# Altium integrated library Transistor.IntLib: 3457 symbols (part 52 of 78)
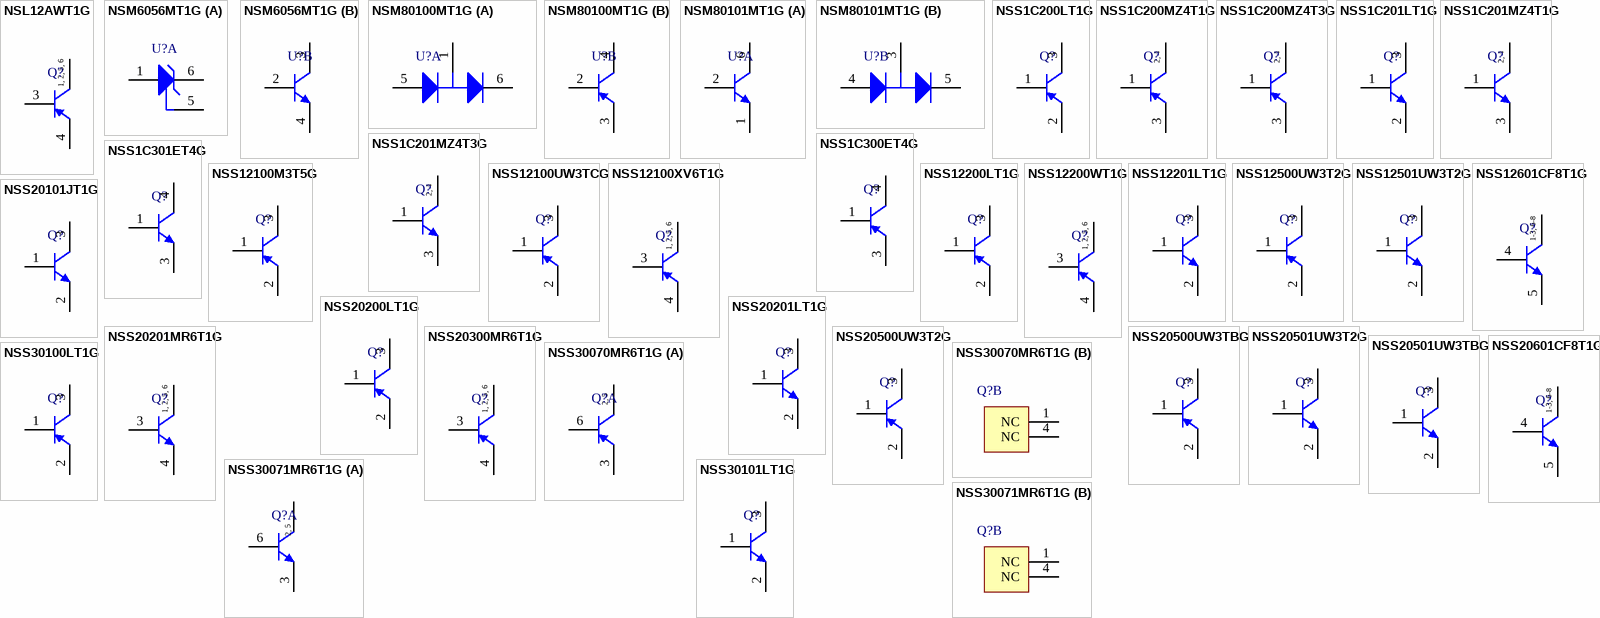
[diagram p145: symbols NSL12AWT1G to NSS30101LT1G]

## NSS30100LT1G
designator Q?
30 V, 2 A, Low VCE(sat), PNP Transistor, 3-Pin SOT-23, Pb-Free, Tape and Reel; Manufacturer: On Semiconductor; PartNumber: NSS30100LT1G; fT Min (MHz): 100; IC Continuous (A): -1; DatasheetVersion: Rev. 2; PackageVersion: Rev. AP, 11/2009; PackageReference: SOT-23-3-318-08; PackageDescription: 3-Pin Small Outline Transistor, Body 2.92 x 1.3 mm, Pitch 0.95 mm; Supplier 1: Digi-Key; Supplier Part Number 1: NSS30100LT1GOSTR-ND; Supplier 2: Digi-Key; Supplier Part Number 2: NSS30100LT1GOSCT-ND; Supplier 3: Digi-Key; Supplier Part Number 3: NSS30100LT1GOSDKR-ND; Supplier 4: Newark; Supplier Part Number 4: 61K1268; Supplier 5: Mouser; Supplier Part Number 5: 863-NSS30100LT1G; Packing: Tape and Reel; Polarity: PNP; RoHS: TRUE; Mounting Technology: Surface Mount; ComponentLink1Description: Manufacturer URL; ComponentLink1URL: http://www.onsemi.com/; ComponentLink2Description: Datasheet; ComponentLink2URL: http://www.onsemi.com/pub_link/Collateral/NSS30100LT1G-D.PDF; ComponentLink3Description: Package Specification; ComponentLink3URL: http://www.onsemi.cn/pub_link/Collateral/318-08.PDF
footprint ONSC-SOT-23-3-318-08_V (SOT23, 3-Leads, Body 2.92x1.3mm, Pitch 0.95mm)
pins: 1 B, 2 E, 3 C

## NSS30101LT1G
designator Q?
30 V, 2 A, Low VCE(sat), NPN Transistor, 3-Pin SOT-23, Pb-Free, Tape and Reel; Manufacturer: On Semiconductor; PartNumber: NSS30101LT1G; fT Min (MHz): 100; DatasheetVersion: Rev. 1; PackageVersion: Rev. AP, 11/2009; PackageReference: SOT-23-3-318-08; PackageDescription: 3-Pin Small Outline Transistor, Body 2.92 x 1.3 mm, Pitch 0.95 mm; Supplier 1: Digi-Key; Supplier Part Number 1: NSS30101LT1GOSTR-ND; Supplier 2: Digi-Key; Supplier Part Number 2: NSS30101LT1GOSCT-ND; Supplier 3: Digi-Key; Supplier Part Number 3: NSS30101LT1GOSDKR-ND; Supplier 4: Farnell; Supplier Part Number 4: 2317562; Supplier 5: Newark; Supplier Part Number 5: 09R9617; Supplier 6: Newark; Supplier Part Number 6: 61K1269; Supplier 7: Mouser; Supplier Part Number 7: 863-NSS30101LT1G; Packing: Tape and Reel; Polarity: NPN; RoHS: TRUE; Mounting Technology: Surface Mount; ComponentLink1Description: Manufacturer URL; ComponentLink1URL: http://www.onsemi.com/; ComponentLink2Description: Datasheet; ComponentLink2URL: http://www.onsemi.com/pub_link/Collateral/NSS30101LT1G-D.PDF; ComponentLink3Description: Package Specification; ComponentLink3URL: http://www.onsemi.cn/pub_link/Collateral/318-08.PDF
footprint ONSC-SOT-23-3-318-08_V (SOT23, 3-Leads, Body 2.92x1.3mm, Pitch 0.95mm)
pins: 1 B, 2 E, 3 C

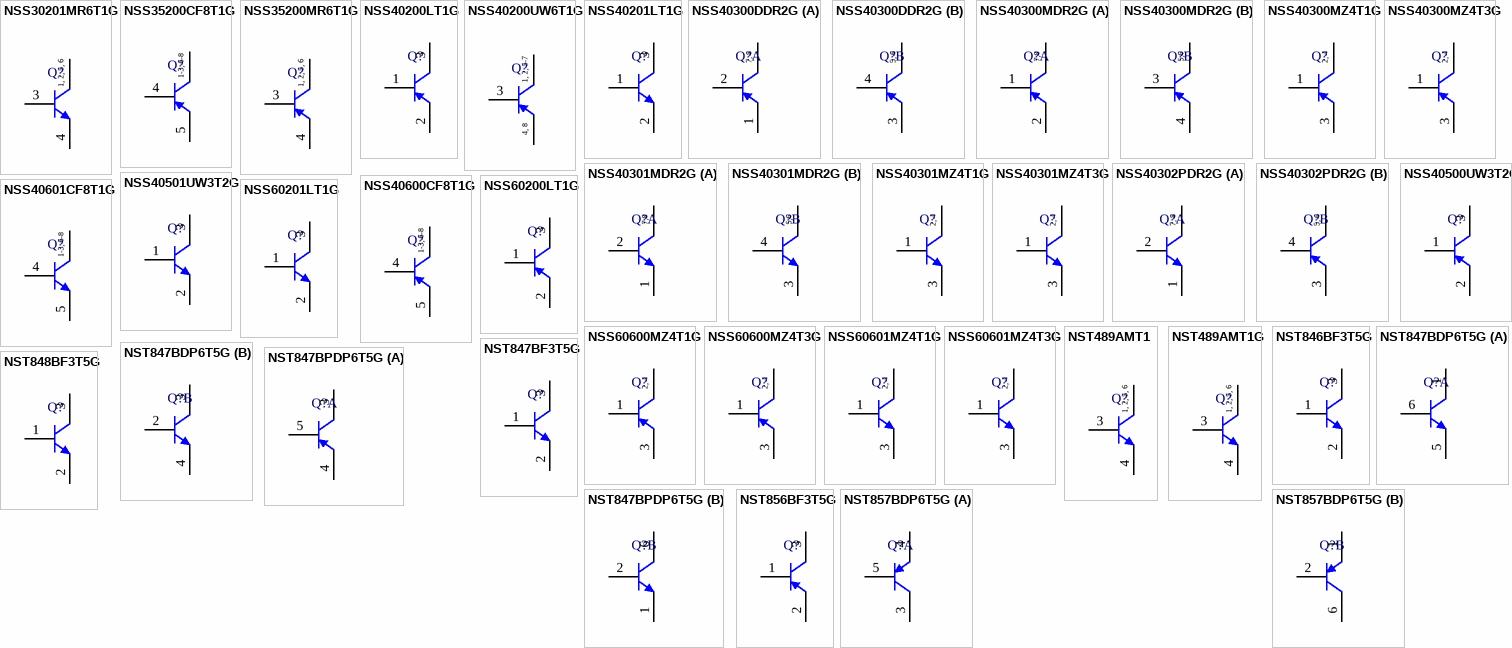
[diagram p61: symbols NSS30201MR6T1G to NST857BDP6T5G]

## NSS30201MR6T1G
designator Q?
30 V, 3 A, Low VCE(sat), NPN Transistor, 6-Pin TSOP, Pb-Free, Tape and Reel; Manufacturer: On Semiconductor; PartNumber: NSS30201MR6T1G; fT Min (MHz): 200; IC Continuous (A): 2; DatasheetVersion: Rev. 1; PackageVersion: Rev. V, 06/2012; PackageReference: TSOP-6-318G-02; PackageDescription: 6-Pin Small Outline Package, Body 3 x 1.5 mm, Pitch 0.95 mm; Supplier 1: Digi-Key; Supplier Part Number 1: NSS30201MR6T1GOSTR-ND; Supplier 2: Digi-Key; Supplier Part Number 2: NSS30201MR6T1GOSCT-ND; Supplier 3: Newark; Supplier Part Number 3: 61K1270; Supplier 4: Mouser; Supplier Part Number 4: 863-NSS30201MR6T1G; Packing: Tape and Reel; Polarity: NPN; RoHS: TRUE; Mounting Technology: Surface Mount; ComponentLink1Description: Manufacturer URL; ComponentLink1URL: http://www.onsemi.com/; ComponentLink2Description: Datasheet; ComponentLink2URL: http://www.onsemi.com/pub_link/Collateral/NSS30201MR6T1G-D.PDF; ComponentLink3Description: Package Specification; ComponentLink3URL: http://www.onsemi.com/pub_link/Collateral/318G-02.PDF
footprint ONSC-TSOP-6-318G-02_V (SOP, 6-Leads, Body 3x1.5mm, Pitch 0.95mm)
pins: 1 C, 2 C, 3 B, 4 E, 5 C, 6 C
text: 1, 2, 5, 6

## NSS35200CF8T1G
designator Q?
35 V, 7 A, Low VCE(sat), PNP Transistor, 8-Pin CHIPFET, Pb-Free, Tape and Reel; Manufacturer: On Semiconductor; PartNumber: NSS35200CF8T1G; fT Min (MHz): 100; IC Continuous (A): -2; DatasheetVersion: Rev. 5; PackageVersion: Rev. H, 10/2006; PackageReference: CHIPFET-8-1206A-03; PackageDescription: 8-Pin ChipFET, Body 3.025 x 1.625 mm, Pitch 0.65 mm; Supplier 1: Digi-Key; Supplier Part Number 1: NSS35200CF8T1GOSTR-ND; Supplier 2: Digi-Key; Supplier Part Number 2: NSS35200CF8T1GOSCT-ND; Supplier 3: Digi-Key; Supplier Part Number 3: NSS35200CF8T1GOSDKR-ND; Supplier 4: Mouser; Supplier Part Number 4: 863-NSS35200CF8T1G; Packing: Tape and Reel; Polarity: PNP; RoHS: TRUE; Mounting Technology: Surface Mount; ComponentLink1Description: Manufacturer URL; ComponentLink1URL: http://www.onsemi.com/; ComponentLink2Description: Datasheet; ComponentLink2URL: http://www.onsemi.com/pub_link/Collateral/NSS35200CF8T1G-D.PDF; ComponentLink3Description: Package Specification; ComponentLink3URL: http://www.onsemi.cn/pub_link/Collateral/NSS12601CF8-D.PDF
footprint ONSC-CHIPFET-8-1206A-03_V (SON, 8-Leads, Body 3.026x1.626mm, Pitch 0.635mm)
pins: 1 C, 2 C, 3 C, 4 B, 5 E, 6 C, 7 C, 8 C
text: 1-3, 6-8

## NSS35200MR6T1G
designator Q?
35 V, 5 A, Low VCE(sat), PNP Transistor, 6-Pin TSOP, Pb-Free, Tape and Reel; Manufacturer: On Semiconductor; PartNumber: NSS35200MR6T1G; fT Min (MHz): 100; IC Continuous (A): -2; DatasheetVersion: Rev. 5; PackageVersion: Rev. V, 06/2012; PackageReference: TSOP-6-318G-02; PackageDescription: 6-Pin Small Outline Package, Body 3 x 1.5 mm, Pitch 0.95 mm; Supplier 1: Digi-Key; Supplier Part Number 1: NSS35200MR6T1GOSTR-ND; Supplier 2: Digi-Key; Supplier Part Number 2: NSS35200MR6T1GOSCT-ND; Supplier 3: Digi-Key; Supplier Part Number 3: NSS35200MR6T1GOSDKR-ND; Supplier 4: Mouser; Supplier Part Number 4: 863-NSS35200MR6T1G; Packing: Tape and Reel; Polarity: PNP; RoHS: TRUE; Mounting Technology: Surface Mount; ComponentLink1Description: Manufacturer URL; ComponentLink1URL: http://www.onsemi.com/; ComponentLink2Description: Datasheet; ComponentLink2URL: http://www.onsemi.com/pub_link/Collateral/NSS35200MR6-D.PDF; ComponentLink3Description: Package Specification; ComponentLink3URL: http://www.onsemi.com/pub_link/Collateral/318G-02.PDF
footprint ONSC-TSOP-6-318G-02_V (SOP, 6-Leads, Body 3x1.5mm, Pitch 0.95mm)
pins: 1 C, 2 C, 3 B, 4 E, 5 C, 6 C
text: 1, 2, 5, 6

## NSS40200LT1G
designator Q?
40 V, 4 A, Low VCE(sat), PNP Transistor, 3-Pin SOT-23, Pb-Free, Tape and Reel; Manufacturer: On Semiconductor; PartNumber: NSS40200LT1G; fT Min (MHz): 100; IC Continuous (A): -2; DatasheetVersion: Rev. 5; PackageVersion: Rev. AP, 11/2009; PackageReference: SOT-23-3-318-08; PackageDescription: 3-Pin Small Outline Transistor, Body 2.92 x 1.3 mm, Pitch 0.95 mm; Supplier 1: Digi-Key; Supplier Part Number 1: NSS40200LT1GOSTR-ND; Supplier 2: Digi-Key; Supplier Part Number 2: NSS40200LT1GOSCT-ND; Supplier 3: Digi-Key; Supplier Part Number 3: NSS40200LT1GOSDKR-ND; Supplier 4: Newark; Supplier Part Number 4: 27M2686; Supplier 5: Mouser; Supplier Part Number 5: 863-NSS40200LT1G; Packing: Tape and Reel; Polarity: PNP; RoHS: TRUE; Mounting Technology: Surface Mount; ComponentLink1Description: Manufacturer URL; ComponentLink1URL: http://www.onsemi.com/; ComponentLink2Description: Datasheet; ComponentLink2URL: http://www.onsemi.com/pub_link/Collateral/NSS40200L-D.PDF; ComponentLink3Description: Package Specification; ComponentLink3URL: http://www.onsemi.cn/pub_link/Collateral/318-08.PDF
footprint ONSC-SOT-23-3-318-08_V (SOT23, 3-Leads, Body 2.92x1.3mm, Pitch 0.95mm)
pins: 1 B, 2 E, 3 C

## NSS40200UW6T1G
designator Q?
40 V, 4 A, Low VCE(sat), PNP Transistor, 6-Pin WDFN, Pb-Free, Tape and Reel; Manufacturer: On Semiconductor; PartNumber: NSS40200UW6T1G; fT Min (MHz): 140; IC Continuous (A): -2; DatasheetVersion: Rev. 0; PackageVersion: Rev. B, 04/2006; PackageReference: WDFN-6-506AP-01; PackageDescription: 6-Pin Small Outline No-Lead, Body 2 x 2 mm, Pitch 0.65 mm; Supplier 1: Digi-Key; Supplier Part Number 1: NSS40200UW6T1GOSTR-ND; Supplier 2: Digi-Key; Supplier Part Number 2: NSS40200UW6T1GOSCT-ND; Supplier 3: Digi-Key; Supplier Part Number 3: NSS40200UW6T1GOSDKR-ND; Supplier 4: Mouser; Supplier Part Number 4: 863-NSS40200UW6T1G; Packing: Tape and Reel; Polarity: PNP; RoHS: TRUE; Mounting Technology: Surface Mount; ComponentLink1Description: Manufacturer URL; ComponentLink1URL: http://www.onsemi.com/; ComponentLink2Description: Datasheet; ComponentLink2URL: http://www.onsemi.com/pub_link/Collateral/NSS40200UW6-D.PDF; ComponentLink3Description: Package Specification; ComponentLink3URL: http://www.onsemi.com/pub_link/Collateral/506AP.PDF
footprint ONSC-WDFN-6-506AP-01_V (SON, 6-Leads, Body 2x2mm, Pitch 0.65mm)
pins: 1 C, 2 C, 3 B, 4 E, 5 C, 6 C, 7 C, 8 E
text: 1, 2, 5-7; 4, 8

## NSS40201LT1G
designator Q?
40 V, 2 A, Low VCE(sat), NPN Transistor, 3-Pin SOT-23, Pb-Free, Tape and Reel; Manufacturer: On Semiconductor; PartNumber: NSS40201LT1G; fT Min (MHz): 150; IC Continuous (A): 2; DatasheetVersion: Rev. 8; PackageVersion: Rev. AP, 11/2009; PackageReference: SOT-23-3-318-08; PackageDescription: 3-Pin Small Outline Transistor, Body 2.92 x 1.3 mm, Pitch 0.95 mm; Supplier 1: Digi-Key; Supplier Part Number 1: NSS40201LT1GOSTR-ND; Supplier 2: Digi-Key; Supplier Part Number 2: NSS40201LT1GOSCT-ND; Supplier 3: Digi-Key; Supplier Part Number 3: NSS40201LT1GOSDKR-ND; Supplier 4: Farnell; Supplier Part Number 4: 1468041; Supplier 5: Newark; Supplier Part Number 5: 50M4396; Supplier 6: Mouser; Supplier Part Number 6: 863-NSS40201LT1G; Packing: Tape and Reel; Polarity: NPN; RoHS: TRUE; Mounting Technology: Surface Mount; ComponentLink1Description: Manufacturer URL; ComponentLink1URL: http://www.onsemi.com/; ComponentLink2Description: Datasheet; ComponentLink2URL: http://www.onsemi.com/pub_link/Collateral/NSS40201L-D.PDF; ComponentLink3Description: Package Specification; ComponentLink3URL: http://www.onsemi.cn/pub_link/Collateral/318-08.PDF
footprint ONSC-SOT-23-3-318-08_V (SOT23, 3-Leads, Body 2.92x1.3mm, Pitch 0.95mm)
pins: 1 B, 2 E, 3 C

## NSS40300DDR2G
designator Q?
Dual 40 V, 6 A, Low VCE(sat), PNP Transistor, 8-Pin SOIC, Pb-Free, Tape and Reel; Manufacturer: On Semiconductor; PartNumber: NSS40300DDR2G; fT Min (MHz): 100; IC Continuous (A): -3; Polarity: Dual PNP; DatasheetVersion: Rev. 0; PackageVersion: Rev. AK, 02/2011; PackageReference: SOIC-8-751-07; PackageDescription: 8-Pin Small Outline Integrated Circuit, Body 4.9 x 3.9 mm, Pitch 1.27 mm; Supplier 1: Digi-Key; Supplier Part Number 1: NSS40300DDR2G-ND; Supplier 2: Mouser; Supplier Part Number 2: 863-NSS40300DDR2G; Packing: Tape and Reel; RoHS: TRUE; Mounting Technology: Surface Mount; ComponentLink1Description: Manufacturer URL; ComponentLink1URL: http://www.onsemi.com/; ComponentLink2Description: Datasheet; ComponentLink2URL: http://www.onsemi.com/pub_link/Collateral/NSS40300D-D.PDF; ComponentLink3Description: Package Specification; ComponentLink3URL: http://www.onsemi.com/pub_link/Collateral/751-07.PDF
footprint ONSC-SOIC-8-751-07_V (SOIC, 8-Leads, Body 4.9x3.9mm, Pitch 1.27mm)
part A pins: 1 E, 2 B, 7 C, 8 C
part B pins: 3 E, 4 B, 5 C, 6 C
part A text: 7, 8
part B text: 5, 6

## NSS40300MDR2G
designator Q?
Dual Matched 40 V, 6 A, Low VCE(sat), PNP Transistor, 8-Pin SOIC, Pb-Free, Tape and Reel; Manufacturer: On Semiconductor; PartNumber: NSS40300MDR2G; fT Min (MHz): 100; IC Continuous (A): -3; Polarity: Dual PNP; DatasheetVersion: Rev. 2; PackageVersion: Rev. AK, 02/2011; PackageReference: SOIC-8-751-07; PackageDescription: 8-Pin Small Outline Integrated Circuit, Body 4.9 x 3.9 mm, Pitch 1.27 mm; Supplier 1: Digi-Key; Supplier Part Number 1: NSS40300MDR2G-ND; Supplier 2: Newark; Supplier Part Number 2: 01P5107; Supplier 3: Mouser; Supplier Part Number 3: 863-NSS40300MDR2G; Packing: Tape and Reel; RoHS: TRUE; Mounting Technology: Surface Mount; ComponentLink1Description: Manufacturer URL; ComponentLink1URL: http://www.onsemi.com/; ComponentLink2Description: Datasheet; ComponentLink2URL: http://www.onsemi.com/pub_link/Collateral/NSS40300MD-D.PDF; ComponentLink3Description: Package Specification; ComponentLink3URL: http://www.onsemi.com/pub_link/Collateral/751-07.PDF
footprint ONSC-SOIC-8-751-07_V (SOIC, 8-Leads, Body 4.9x3.9mm, Pitch 1.27mm)
part A pins: 1 B, 2 E, 7 C, 8 C
part B pins: 3 B, 4 E, 5 C, 6 C
part A text: 7,8
part B text: 5,6

## NSS40300MZ4T1G
designator Q?
Bipolar Power Transistor, 40 V, 3 A, Low VCE(sat), PNP Transistor, 4-Pin SOT-223, Pb-Free, Tape and Reel; Manufacturer: On Semiconductor; PartNumber: NSS40300MZ4T1G; IC Continuous (A): 3; DatasheetVersion: Rev. 3; PackageVersion: Rev. N, 08/2009; PackageReference: SOT-223-4-318E-04; PackageDescription: 4-Pin Small Outline Transistor, Body 6.5 x 3.5 mm, Pitch 2.3 mm; Supplier 1: Digi-Key; Supplier Part Number 1: NSS40300MZ4T1GOSTR-ND; Supplier 2: Digi-Key; Supplier Part Number 2: NSS40300MZ4T1GOSCT-ND; Supplier 3: Digi-Key; Supplier Part Number 3: NSS40300MZ4T1GOSDKR-ND; Supplier 4: Newark; Supplier Part Number 4: 50M4397; Supplier 5: Mouser; Supplier Part Number 5: 863-NSS40300MZ4T1G; Packing: Tape and Reel; Polarity: PNP; RoHS: TRUE; Mounting Technology: Surface Mount; ComponentLink1Description: Manufacturer URL; ComponentLink1URL: http://www.onsemi.com/; ComponentLink2Description: Datasheet; ComponentLink2URL: http://www.onsemi.com/pub_link/Collateral/NSS40300MZ4-D.PDF; ComponentLink3Description: Package Specification; ComponentLink3URL: http://www.onsemi.com/pub_link/Collateral/318E-04.PDF
footprint ONSC-SOT-223-4-318E-04_V (SOT223, 4-Leads, Body 6.5x3.5mm, Pitch 2.3mm)
pins: 1 B, 2 C, 3 E, 4 C
text: 2, 4

## NSS40300MZ4T3G
designator Q?
Bipolar Power Transistor, 40 V, 3 A, Low VCE(sat), PNP Transistor, 4-Pin SOT-223, Pb-Free, Tape and Reel; Manufacturer: On Semiconductor; PartNumber: NSS40300MZ4T3G; IC Continuous (A): 3; DatasheetVersion: Rev. 3; PackageVersion: Rev. N, 08/2009; PackageReference: SOT-223-4-318E-04; PackageDescription: 4-Pin Small Outline Transistor, Body 6.5 x 3.5 mm, Pitch 2.3 mm; Supplier 1: Digi-Key; Supplier Part Number 1: NSS40300MZ4T3G-ND; Supplier 2: Mouser; Supplier Part Number 2: 863-NSS40300MZ4T3G; Packing: Tape and Reel; Polarity: PNP; RoHS: TRUE; Mounting Technology: Surface Mount; ComponentLink1Description: Manufacturer URL; ComponentLink1URL: http://www.onsemi.com/; ComponentLink2Description: Datasheet; ComponentLink2URL: http://www.onsemi.com/pub_link/Collateral/NSS40300MZ4-D.PDF; ComponentLink3Description: Package Specification; ComponentLink3URL: http://www.onsemi.com/pub_link/Collateral/318E-04.PDF
footprint ONSC-SOT-223-4-318E-04_V (SOT223, 4-Leads, Body 6.5x3.5mm, Pitch 2.3mm)
pins: 1 B, 2 C, 3 E, 4 C
text: 2, 4

## NSS40301MDR2G
designator Q?
Dual Matched 40 V, 6 A, Low VCE(sat), NPN Transistor, 8-Pin SOIC, Pb-Free, Tape and Reel; Manufacturer: On Semiconductor; PartNumber: NSS40301MDR2G; fT Min (MHz): 100; IC Continuous (A): 3; Polarity: Dual NPN; DatasheetVersion: Rev. 1; PackageVersion: Rev. AK, 02/2011; PackageReference: SOIC-8-751-07; PackageDescription: 8-Pin Small Outline Integrated Circuit, Body 4.9 x 3.9 mm, Pitch 1.27 mm; Supplier 1: Digi-Key; Supplier Part Number 1: NSS40301MDR2G-ND; Supplier 2: Mouser; Supplier Part Number 2: 863-NSS40301MDR2G; Packing: Tape and Reel; RoHS: TRUE; Mounting Technology: Surface Mount; ComponentLink1Description: Manufacturer URL; ComponentLink1URL: http://www.onsemi.com/; ComponentLink2Description: Datasheet; ComponentLink2URL: http://www.onsemi.com/pub_link/Collateral/NSS40301MD-D.PDF; ComponentLink3Description: Package Specification; ComponentLink3URL: http://www.onsemi.com/pub_link/Collateral/751-07.PDF
footprint ONSC-SOIC-8-751-07_V (SOIC, 8-Leads, Body 4.9x3.9mm, Pitch 1.27mm)
part A pins: 1 E, 2 B, 7 C, 8 C
part B pins: 3 E, 4 B, 5 C, 6 C
part A text: 7,8
part B text: 5,6

## NSS40301MZ4T1G
designator Q?
Bipolar Power Transistor, 40 V, 3 A, Low VCE(sat), NPN Transistor, 4-Pin SOT-223, Pb-Free, Tape and Reel; Manufacturer: On Semiconductor; PartNumber: NSS40301MZ4T1G; IC Continuous (A): 3; DatasheetVersion: Rev. 3; PackageVersion: Rev. N, 08/2009; PackageReference: SOT-223-4-318E-04; PackageDescription: 4-Pin Small Outline Transistor, Body 6.5 x 3.5 mm, Pitch 2.3 mm; Supplier 1: Digi-Key; Supplier Part Number 1: NSS40301MZ4T1GOSTR-ND; Supplier 2: Digi-Key; Supplier Part Number 2: NSS40301MZ4T1GOSCT-ND; Supplier 3: Digi-Key; Supplier Part Number 3: NSS40301MZ4T1GOSDKR-ND; Supplier 4: Newark; Supplier Part Number 4: 57M9899; Supplier 5: Mouser; Supplier Part Number 5: 863-NSS40301MZ4T1G; Packing: Tape and Reel; Polarity: NPN; RoHS: TRUE; Mounting Technology: Surface Mount; ComponentLink1Description: Manufacturer URL; ComponentLink1URL: http://www.onsemi.com/; ComponentLink2Description: Datasheet; ComponentLink2URL: http://www.onsemi.com/pub_link/Collateral/NSS40301MZ4-D.PDF; ComponentLink3Description: Package Specification; ComponentLink3URL: http://www.onsemi.com/pub_link/Collateral/318E-04.PDF
footprint ONSC-SOT-223-4-318E-04_V (SOT223, 4-Leads, Body 6.5x3.5mm, Pitch 2.3mm)
pins: 1 B, 2 C, 3 E, 4 C
text: 2, 4

## NSS40301MZ4T3G
designator Q?
Bipolar Power Transistor, 40 V, 3 A, Low VCE(sat), NPN Transistor, 4-Pin SOT-223, Pb-Free, Tape and Reel; Manufacturer: On Semiconductor; PartNumber: NSS40301MZ4T3G; IC Continuous (A): 3; DatasheetVersion: Rev. 3; PackageVersion: Rev. N, 08/2009; PackageReference: SOT-223-4-318E-04; PackageDescription: 4-Pin Small Outline Transistor, Body 6.5 x 3.5 mm, Pitch 2.3 mm; Supplier 1: Digi-Key; Supplier Part Number 1: NSS40301MZ4T3G-ND; Supplier 2: Mouser; Supplier Part Number 2: 863-NSS40301MZ4T3G; Packing: Tape and Reel; Polarity: NPN; RoHS: TRUE; Mounting Technology: Surface Mount; ComponentLink1Description: Manufacturer URL; ComponentLink1URL: http://www.onsemi.com/; ComponentLink2Description: Datasheet; ComponentLink2URL: http://www.onsemi.com/pub_link/Collateral/NSS40301MZ4-D.PDF; ComponentLink3Description: Package Specification; ComponentLink3URL: http://www.onsemi.com/pub_link/Collateral/318E-04.PDF
footprint ONSC-SOT-223-4-318E-04_V (SOT223, 4-Leads, Body 6.5x3.5mm, Pitch 2.3mm)
pins: 1 B, 2 C, 3 E, 4 C
text: 2, 4

## NSS40302PDR2G
designator Q?
Complementary 40 V, 6 A, Low VCE(sat), Transistor, 8-Pin SOIC, Pb-Free, Tape and Reel; Manufacturer: On Semiconductor; PartNumber: NSS40302PDR2G; fT Min (MHz): 100; IC Continuous (A): 3; DatasheetVersion: Rev. 0; PackageVersion: Rev. AK, 02/2011; PackageReference: SOIC-8-751-07; PackageDescription: 8-Pin Small Outline Integrated Circuit, Body 4.9 x 3.9 mm, Pitch 1.27 mm; Supplier 1: Digi-Key; Supplier Part Number 1: NSS40302PDR2G-ND; Supplier 2: Newark; Supplier Part Number 2: 13P5599; Supplier 3: Mouser; Supplier Part Number 3: 863-NSS40302PDR2G; Packing: Tape and Reel; Polarity: Complementary; RoHS: TRUE; Mounting Technology: Surface Mount; ComponentLink1Description: Manufacturer URL; ComponentLink1URL: http://www.onsemi.com/; ComponentLink2Description: Datasheet; ComponentLink2URL: http://www.onsemi.com/pub_link/Collateral/NSS40302P.PDF; ComponentLink3Description: Package Specification; ComponentLink3URL: http://www.onsemi.com/pub_link/Collateral/751-07.PDF
footprint ONSC-SOIC-8-751-07_V (SOIC, 8-Leads, Body 4.9x3.9mm, Pitch 1.27mm)
part A pins: 1 E, 2 B, 7 C, 8 C
part B pins: 3 E, 4 B, 5 C, 6 C
part A text: 7, 8
part B text: 5, 6

## NSS40500UW3T2G
designator Q?
40 V, 5 A, Low VCE(sat), PNP Transistor, 3-Pin WDFN, Pb-Free, Tape and Reel; Manufacturer: On Semiconductor; PartNumber: NSS40500UW3T2G; fT Min (MHz): 100; IC Continuous (A): -5; DatasheetVersion: Rev. 2; PackageVersion: Rev. O, 09/2005; PackageReference: WDFN-3-506AU-01; PackageDescription: 3-Pin Small Outline No-Lead, Body 2 x 2 mm, Pitch 1.3 mm; Supplier 1: Digi-Key; Supplier Part Number 1: NSS40500UW3T2G-ND; Supplier 2: Mouser; Supplier Part Number 2: 863-NSS40500UW3T2G; Packing: Tape and Reel; Polarity: PNP; RoHS: TRUE; Mounting Technology: Surface Mount; ComponentLink1Description: Manufacturer URL; ComponentLink1URL: http://www.onsemi.com/; ComponentLink2Description: Datasheet; ComponentLink2URL: http://www.onsemi.com/pub_link/Collateral/NSS40500UW3-D.PDF; ComponentLink3Description: Package Specification; ComponentLink3URL: http://www.onsemi.com/pub_link/Collateral/506AU.PDF
footprint ONSC-WDFN-3-506AU-01_V (WDFN, 3-Leads, Body 2 x 2mm, Pitch 1.3mm)
pins: 1 B, 2 E, 3 C

## NSS40501UW3T2G
designator Q?
40 V, 5 A, Low VCE(sat), NPN Transistor, 3-Pin WDFN, Pb-Free, Tape and Reel; Manufacturer: On Semiconductor; PartNumber: NSS40501UW3T2G; fT Min (MHz): 150; IC Continuous (A): 5; DatasheetVersion: Rev. 5; PackageVersion: Rev. O, 09/2005; PackageReference: WDFN-3-506AU-01; PackageDescription: 3-Pin Small Outline No-Lead, Body 2 x 2 mm, Pitch 1.3 mm; Supplier 1: Digi-Key; Supplier Part Number 1: NSS40501UW3T2GOSTR-ND; Supplier 2: Digi-Key; Supplier Part Number 2: NSS40501UW3T2GOSCT-ND; Supplier 3: Digi-Key; Supplier Part Number 3: NSS40501UW3T2GOSDKR-ND; Supplier 4: Newark; Supplier Part Number 4: 50M4399; Supplier 5: Mouser; Supplier Part Number 5: 863-NSS40501UW3T2G; Packing: Tape and Reel; Polarity: NPN; RoHS: TRUE; Mounting Technology: Surface Mount; ComponentLink1Description: Manufacturer URL; ComponentLink1URL: http://www.onsemi.com/; ComponentLink2Description: Datasheet; ComponentLink2URL: http://www.onsemi.com/pub_link/Collateral/NSS40501UW3-D.PDF; ComponentLink3Description: Package Specification; ComponentLink3URL: http://www.onsemi.com/pub_link/Collateral/506AU.PDF
footprint ONSC-WDFN-3-506AU-01_V (WDFN, 3-Leads, Body 2 x 2mm, Pitch 1.3mm)
pins: 1 B, 2 E, 3 C

## NSS40600CF8T1G
designator Q?
40 V, 7 A, Low VCE(sat), PNP Transistor, 8-Pin CHIPFET, Pb-Free, Tape and Reel; Manufacturer: On Semiconductor; PartNumber: NSS40600CF8T1G; fT Min (MHz): 100; IC Continuous (A): -6; DatasheetVersion: Rev. 4; PackageVersion: Rev. K, 05/2009; PackageReference: CHIPFET-8-1206A-03_K; PackageDescription: 8-Pin ChipFET, Body 3.025 x 1.625 mm, Pitch 0.635 mm; Supplier 1: Digi-Key; Supplier Part Number 1: NSS40600CF8T1G-ND; Supplier 2: Newark; Supplier Part Number 2: 27M2689; Supplier 3: Mouser; Supplier Part Number 3: 863-NSS40600CF8T1G; Packing: Tape and Reel; Polarity: PNP; RoHS: TRUE; Mounting Technology: Surface Mount; ComponentLink1Description: Manufacturer URL; ComponentLink1URL: http://www.onsemi.com/; ComponentLink2Description: Datasheet; ComponentLink2URL: http://www.onsemi.com/pub_link/Collateral/NSS40600CF8-D.PDF; ComponentLink3Description: Package Specification; ComponentLink3URL: http://www.onsemi.com/pub_link/Collateral/1206A-03.PDF
footprint ONSC-CHIPFET-8-1206A-03_K_V (SON, 8-Leads, Body 3.026x1.626mm, Pitch 0.65mm)
pins: 1 C, 2 C, 3 C, 4 B, 5 E, 6 C, 7 C, 8 C
text: 1-3, 6-8

## NSS40601CF8T1G
designator Q?
40 V, 8 A, Low VCE(sat), NPN Transistor, 8-Pin CHIPFET, Pb-Free, Tape and Reel; Manufacturer: On Semiconductor; PartNumber: NSS40601CF8T1G; fT Min (MHz): 140; IC Continuous (A): 6; DatasheetVersion: Rev. 1; PackageVersion: Rev. H, 10/2006; PackageReference: CHIPFET-8-1206A-03; PackageDescription: 8-Pin ChipFET, Body 3.025 x 1.625 mm, Pitch 0.65 mm; Supplier 1: Digi-Key; Supplier Part Number 1: NSS40601CF8T1GOSTR-ND; Supplier 2: Digi-Key; Supplier Part Number 2: NSS40601CF8T1GOSCT-ND; Supplier 3: Digi-Key; Supplier Part Number 3: NSS40601CF8T1GOSDKR-ND; Supplier 4: Newark; Supplier Part Number 4: 50M4400; Supplier 5: Mouser; Supplier Part Number 5: 863-NSS40601CF8T1G; Packing: Tape and Reel; Polarity: NPN; RoHS: TRUE; Mounting Technology: Surface Mount; ComponentLink1Description: Manufacturer URL; ComponentLink1URL: http://www.onsemi.com/; ComponentLink2Description: Datasheet; ComponentLink2URL: http://www.onsemi.com/pub_link/Collateral/NSS40601CF8-D.PDF; ComponentLink3Description: Package Specification; ComponentLink3URL: http://www.onsemi.cn/pub_link/Collateral/NSS12601CF8-D.PDF
footprint ONSC-CHIPFET-8-1206A-03_V (SON, 8-Leads, Body 3.026x1.626mm, Pitch 0.635mm)
pins: 1 C, 2 C, 3 C, 4 B, 5 E, 6 C, 7 C, 8 C
text: 1-3, 6-8

## NSS60200LT1G
designator Q?
60 V, 4 A, Low VCE(sat), PNP Transistor, 3-Pin SOT-23, Pb-Free, Tape and Reel; Manufacturer: On Semiconductor; PartNumber: NSS60200LT1G; fT Min (MHz): 100; IC Continuous (A): -2; DatasheetVersion: Rev. 1; PackageVersion: Rev. AP, 11/2009; PackageReference: SOT-23-3-318-08; PackageDescription: 3-Pin Small Outline Transistor, Body 2.92 x 1.3 mm, Pitch 0.95 mm; Supplier 1: Digi-Key; Supplier Part Number 1: NSS60200LT1GOSTR-ND; Supplier 2: Digi-Key; Supplier Part Number 2: NSS60200LT1GOSCT-ND; Supplier 3: Digi-Key; Supplier Part Number 3: NSS60200LT1GOSDKR-ND; Supplier 4: Farnell; Supplier Part Number 4: 2317570; Supplier 5: Newark; Supplier Part Number 5: 85W3180; Supplier 6: Newark; Supplier Part Number 6: 50M4401; Supplier 7: Mouser; Supplier Part Number 7: 863-NSS60200LT1G; Packing: Tape and Reel; Polarity: PNP; RoHS: TRUE; Mounting Technology: Surface Mount; ComponentLink1Description: Manufacturer URL; ComponentLink1URL: http://www.onsemi.com/; ComponentLink2Description: Datasheet; ComponentLink2URL: http://www.onsemi.com/pub_link/Collateral/NSS60200L-D.PDF; ComponentLink3Description: Package Specification; ComponentLink3URL: http://www.onsemi.cn/pub_link/Collateral/318-08.PDF
footprint ONSC-SOT-23-3-318-08_V (SOT23, 3-Leads, Body 2.92x1.3mm, Pitch 0.95mm)
pins: 1 B, 2 E, 3 C

## NSS60201LT1G
designator Q?
60 V, 4 A, Low VCE(sat), NPN Transistor, 3-Pin SOT-23, Pb-Free, Tape and Reel; Manufacturer: On Semiconductor; PartNumber: NSS60201LT1G; fT Min (MHz): 100; IC Continuous (A): 2; DatasheetVersion: Rev. 2; PackageVersion: Rev. AP, 11/2009; PackageReference: SOT-23-3-318-08; PackageDescription: 3-Pin Small Outline Transistor, Body 2.92 x 1.3 mm, Pitch 0.95 mm; Supplier 1: Digi-Key; Supplier Part Number 1: NSS60201LT1GOSTR-ND; Supplier 2: Digi-Key; Supplier Part Number 2: NSS60201LT1GOSCT-ND; Supplier 3: Digi-Key; Supplier Part Number 3: NSS60201LT1GOSDKR-ND; Supplier 4: Farnell; Supplier Part Number 4: 2317568; Supplier 5: Newark; Supplier Part Number 5: 85W3181; Supplier 6: Newark; Supplier Part Number 6: 75M5192; Supplier 7: Mouser; Supplier Part Number 7: 863-NSS60201LT1G; Packing: Tape and Reel; Polarity: NPN; RoHS: TRUE; Mounting Technology: Surface Mount; ComponentLink1Description: Manufacturer URL; ComponentLink1URL: http://www.onsemi.com/; ComponentLink2Description: Datasheet; ComponentLink2URL: http://www.onsemi.com/pub_link/Collateral/NSS60201L-D.PDF; ComponentLink3Description: Package Specification; ComponentLink3URL: http://www.onsemi.cn/pub_link/Collateral/318-08.PDF
footprint ONSC-SOT-23-3-318-08_V (SOT23, 3-Leads, Body 2.92x1.3mm, Pitch 0.95mm)
pins: 1 B, 2 E, 3 C

## NSS60600MZ4T1G
designator Q?
60 V, 6 A, Low VCE(sat), PNP Transistor, 4-Pin SOT-223, Pb-Free, Tape and Reel; Manufacturer: On Semiconductor; PartNumber: NSS60600MZ4T1G; fT Min (MHz): 100; IC Continuous (A): -6; DatasheetVersion: Rev. 4; PackageVersion: Rev. N, 08/2009; PackageReference: SOT-223-4-318E-04; PackageDescription: 4-Pin Small Outline Transistor, Body 6.5 x 3.5 mm, Pitch 2.3 mm; Supplier 1: Digi-Key; Supplier Part Number 1: NSS60600MZ4T1GOSTR-ND; Supplier 2: Digi-Key; Supplier Part Number 2: NSS60600MZ4T1GOSCT-ND; Supplier 3: Digi-Key; Supplier Part Number 3: NSS60600MZ4T1GOSDKR-ND; Supplier 4: Farnell; Supplier Part Number 4: 2317597; Supplier 5: Newark; Supplier Part Number 5: 90W9297; Supplier 6: Newark; Supplier Part Number 6: 50M4402; Supplier 7: Mouser; Supplier Part Number 7: 863-NSS60600MZ4T1G; Packing: Tape and Reel; Polarity: PNP; RoHS: TRUE; Mounting Technology: Surface Mount; ComponentLink1Description: Manufacturer URL; ComponentLink1URL: http://www.onsemi.com/; ComponentLink2Description: Datasheet; ComponentLink2URL: http://www.onsemi.com/pub_link/Collateral/NSS60600MZ4-D.PDF; ComponentLink3Description: Package Specification; ComponentLink3URL: http://www.onsemi.com/pub_link/Collateral/318E-04.PDF
footprint ONSC-SOT-223-4-318E-04_V (SOT223, 4-Leads, Body 6.5x3.5mm, Pitch 2.3mm)
pins: 1 B, 2 C, 3 E, 4 C
text: 2, 4

## NSS60600MZ4T3G
designator Q?
60 V, 6 A, Low VCE(sat), PNP Transistor, 4-Pin SOT-223, Pb-Free, Tape and Reel; Manufacturer: On Semiconductor; PartNumber: NSS60600MZ4T3G; fT Min (MHz): 100; IC Continuous (A): -6; DatasheetVersion: Rev. 4; PackageVersion: Rev. N, 08/2009; PackageReference: SOT-223-4-318E-04; PackageDescription: 4-Pin Small Outline Transistor, Body 6.5 x 3.5 mm, Pitch 2.3 mm; Supplier 1: Digi-Key; Supplier Part Number 1: NSS60600MZ4T3G-ND; Supplier 2: Mouser; Supplier Part Number 2: 863-NSS60600MZ4T3G; Packing: Tape and Reel; Polarity: PNP; RoHS: TRUE; Mounting Technology: Surface Mount; ComponentLink1Description: Manufacturer URL; ComponentLink1URL: http://www.onsemi.com/; ComponentLink2Description: Datasheet; ComponentLink2URL: http://www.onsemi.com/pub_link/Collateral/NSS60600MZ4-D.PDF; ComponentLink3Description: Package Specification; ComponentLink3URL: http://www.onsemi.com/pub_link/Collateral/318E-04.PDF
footprint ONSC-SOT-223-4-318E-04_V (SOT223, 4-Leads, Body 6.5x3.5mm, Pitch 2.3mm)
pins: 1 B, 2 C, 3 E, 4 C
text: 2, 4

## NSS60601MZ4T1G
designator Q?
60 V, 6 A, Low VCE(sat), NPN Transistor, 4-Pin SOT-223, Pb-Free, Tape and Reel; Manufacturer: On Semiconductor; PartNumber: NSS60601MZ4T1G; fT Min (MHz): 100; IC Continuous (A): 6; DatasheetVersion: Rev. 5; PackageVersion: Rev. N, 08/2009; PackageReference: SOT-223-4-318E-04; PackageDescription: 4-Pin Small Outline Transistor, Body 6.5 x 3.5 mm, Pitch 2.3 mm; Supplier 1: Digi-Key; Supplier Part Number 1: NSS60601MZ4T1GOSTR-ND; Supplier 2: Digi-Key; Supplier Part Number 2: NSS60601MZ4T1GOSCT-ND; Supplier 3: Digi-Key; Supplier Part Number 3: NSS60601MZ4T1GOSDKR-ND; Supplier 4: Newark; Supplier Part Number 4: 75M5193; Supplier 5: Mouser; Supplier Part Number 5: 863-NSS60601MZ4T1G; Packing: Tape and Reel; Polarity: NPN; RoHS: TRUE; Mounting Technology: Surface Mount; ComponentLink1Description: Manufacturer URL; ComponentLink1URL: http://www.onsemi.com/; ComponentLink2Description: Datasheet; ComponentLink2URL: http://www.onsemi.com/pub_link/Collateral/NSS60601MZ4-D.PDF; ComponentLink3Description: Package Specification; ComponentLink3URL: http://www.onsemi.com/pub_link/Collateral/318E-04.PDF
footprint ONSC-SOT-223-4-318E-04_V (SOT223, 4-Leads, Body 6.5x3.5mm, Pitch 2.3mm)
pins: 1 B, 2 C, 3 E, 4 C
text: 2, 4

## NSS60601MZ4T3G
designator Q?
60 V, 6 A, Low VCE(sat), NPN Transistor, 4-Pin SOT-223, Pb-Free, Tape and Reel; Manufacturer: On Semiconductor; PartNumber: NSS60601MZ4T3G; fT Min (MHz): 100; IC Continuous (A): 6; DatasheetVersion: Rev. 5; PackageVersion: Rev. N, 08/2009; PackageReference: SOT-223-4-318E-04; PackageDescription: 4-Pin Small Outline Transistor, Body 6.5 x 3.5 mm, Pitch 2.3 mm; Supplier 1: Digi-Key; Supplier Part Number 1: NSS60601MZ4T3G-ND; Supplier 2: Newark; Supplier Part Number 2: 75M5194; Supplier 3: Mouser; Supplier Part Number 3: 863-NSS60601MZ4T3G; Packing: Tape and Reel; Polarity: NPN; RoHS: TRUE; Mounting Technology: Surface Mount; ComponentLink1Description: Manufacturer URL; ComponentLink1URL: http://www.onsemi.com/; ComponentLink2Description: Datasheet; ComponentLink2URL: http://www.onsemi.com/pub_link/Collateral/NSS60601MZ4-D.PDF; ComponentLink3Description: Package Specification; ComponentLink3URL: http://www.onsemi.com/pub_link/Collateral/318E-04.PDF
footprint ONSC-SOT-223-4-318E-04_V (SOT223, 4-Leads, Body 6.5x3.5mm, Pitch 2.3mm)
pins: 1 B, 2 C, 3 E, 4 C
text: 2, 4

## NST489AMT1
designator Q?
High Current Surface Mount NPN Silicon Low VCE(sat), Switching Transistor for Load Management in Portable Application, 6-Pin TSOP, Tape and Reel; Manufacturer: On Semiconductor; PartNumber: NST489AMT1; fT Min (MHz): 200; IC Continuous (A): 2; DatasheetVersion: Rev. 8; PackageVersion: Rev. V, 06/2012; PackageReference: TSOP-6-318G-02; PackageDescription: 6-Pin Small Outline Package, Body 3 x 1.5 mm, Pitch 0.95 mm; Supplier 1: Digi-Key; Supplier Part Number 1: NST489AMT1-ND; Packing: Tape and Reel; Polarity: NPN; RoHS: FALSE; Mounting Technology: Surface Mount; ComponentLink1Description: Manufacturer URL; ComponentLink1URL: http://www.onsemi.com/; ComponentLink2Description: Datasheet; ComponentLink2URL: http://www.onsemi.com/pub_link/Collateral/NST489AMT1-D.PDF; ComponentLink3Description: Package Specification; ComponentLink3URL: http://www.onsemi.com/pub_link/Collateral/318G-02.PDF
footprint ONSC-TSOP-6-318G-02_V (SOP, 6-Leads, Body 3x1.5mm, Pitch 0.95mm)
pins: 1 C, 2 C, 3 B, 4 E, 5 C, 6 C
text: 1, 2, 5, 6

## NST489AMT1G
designator Q?
High Current Surface Mount NPN Silicon Low VCE(sat), Switching Transistor for Load Management in Portable Application, 6-Pin TSOP, Pb-Free, Tape and Reel; Manufacturer: On Semiconductor; PartNumber: NST489AMT1G; fT Min (MHz): 200; IC Continuous (A): 2; DatasheetVersion: Rev. 8; PackageVersion: Rev. V, 06/2012; PackageReference: TSOP-6-318G-02; PackageDescription: 6-Pin Small Outline Package, Body 3 x 1.5 mm, Pitch 0.95 mm; Supplier 1: Digi-Key; Supplier Part Number 1: NST489AMT1GOSTR-ND; Supplier 2: Digi-Key; Supplier Part Number 2: NST489AMT1GOSCT-ND; Supplier 3: Mouser; Supplier Part Number 3: 863-NST489AMT1G; Packing: Tape and Reel; Polarity: NPN; RoHS: TRUE; Mounting Technology: Surface Mount; ComponentLink1Description: Manufacturer URL; ComponentLink1URL: http://www.onsemi.com/; ComponentLink2Description: Datasheet; ComponentLink2URL: http://www.onsemi.com/pub_link/Collateral/NST489AMT1-D.PDF; ComponentLink3Description: Package Specification; ComponentLink3URL: http://www.onsemi.com/pub_link/Collateral/318G-02.PDF
footprint ONSC-TSOP-6-318G-02_V (SOP, 6-Leads, Body 3x1.5mm, Pitch 0.95mm)
pins: 1 C, 2 C, 3 B, 4 E, 5 C, 6 C
text: 1, 2, 5, 6

## NST846BF3T5G
designator Q?
NPN General Purpose Transistor, 3-Pin SOT-1123, Pb-Free, Tape and Reel; Manufacturer: On Semiconductor; PartNumber: NST846BF3T5G; fT Min (MHz): 100; IC Continuous (A): 0.1; DatasheetVersion: Rev. 1; PackageVersion: Rev. C, 11/2011; PackageReference: SOT-1123-3-524AA; PackageDescription: 3-Pin Small Outline Transistor, Body 0.8 x 0.6 mm, Pitch 0.375 mm; Supplier 1: Digi-Key; Supplier Part Number 1: NST846BF3T5G-ND; Supplier 2: Newark; Supplier Part Number 2: 05R9160; Supplier 3: Mouser; Supplier Part Number 3: 863-NST846BF3T5G; Packing: Tape and Reel; Polarity: NPN; RoHS: TRUE; Mounting Technology: Surface Mount; ComponentLink1Description: Manufacturer URL; ComponentLink1URL: http://www.onsemi.com/; ComponentLink2Description: Datasheet; ComponentLink2URL: http://www.onsemi.com/pub_link/Collateral/NST846BF3-D.PDF; ComponentLink3Description: Package Specification; ComponentLink3URL: http://www.onsemi.cn/pub_link/Collateral/524AA.PDF
footprint ONSC-SOT-1123-3-524AA_V (SOT223, 3-Leads, Body 0.8x0.6mm, Pitch 0.38mm)
pins: 1 B, 2 E, 3 C

## NST847BDP6T5G
designator Q?
Dual General Purpose Transistors, 6-Pin SOT-963, Pb-Free, Tape and Reel; Manufacturer: On Semiconductor; PartNumber: NST847BDP6T5G; fT Min (MHz): 100; IC Continuous (A): 0.1; Polarity: Dual NPN; DatasheetVersion: Rev. 0; PackageVersion: Rev. B, 04/2008; PackageReference: SOT-963-6-527AD-01_B; PackageDescription: 6-Pin SOT23, Body 1 x 0.8 mm, Pitch 0.35 mm; Supplier 1: Digi-Key; Supplier Part Number 1: NST847BDP6T5GOSTR-ND; Supplier 2: Digi-Key; Supplier Part Number 2: NST847BDP6T5GOSCT-ND; Supplier 3: Digi-Key; Supplier Part Number 3: NST847BDP6T5GOSDKR-ND; Supplier 4: Mouser; Supplier Part Number 4: 863-NST847BDP6T5G; Packing: Tape and Reel; RoHS: TRUE; Mounting Technology: Surface Mount; ComponentLink1Description: Manufacturer URL; ComponentLink1URL: http://www.onsemi.com/; ComponentLink2Description: Datasheet; ComponentLink2URL: http://www.onsemi.com/pub_link/Collateral/NST847BDP6-D.PDF; ComponentLink3Description: Package Specification; ComponentLink3URL: http://www.onsemi.com/pub_link/Collateral/NST847BDP6-D.PDF
footprint ONSC-SOT-963-6-527AD-01_B_V (SOT23, 6-Leads, Body 1.05x0.85mm, Pitch 0.35mm)
part A pins: 1 C, 5 E, 6 B
part B pins: 2 B, 3 C, 4 E

## NST847BF3T5G
designator Q?
NPN General Purpose Transistor, 3-Pin SOT-1123, Pb-Free, Tape and Reel; Manufacturer: On Semiconductor; PartNumber: NST847BF3T5G; fT Min (MHz): 100; IC Continuous (A): 0.1; DatasheetVersion: Rev. 1; PackageVersion: Rev. C, 11/2011; PackageReference: SOT-1123-3-524AA; PackageDescription: 3-Pin Small Outline Transistor, Body 0.8 x 0.6 mm, Pitch 0.375 mm; Supplier 1: Digi-Key; Supplier Part Number 1: NST847BF3T5GOSTR-ND; Supplier 2: Digi-Key; Supplier Part Number 2: NST847BF3T5GOSCT-ND; Supplier 3: Digi-Key; Supplier Part Number 3: NST847BF3T5GOSDKR-ND; Supplier 4: Mouser; Supplier Part Number 4: 863-NST847BF3T5G; Packing: Tape and Reel; Polarity: NPN; RoHS: TRUE; Mounting Technology: Surface Mount; ComponentLink1Description: Manufacturer URL; ComponentLink1URL: http://www.onsemi.com/; ComponentLink2Description: Datasheet; ComponentLink2URL: http://www.onsemi.com/pub_link/Collateral/NST847BF3-D.PDF; ComponentLink3Description: Package Specification; ComponentLink3URL: http://www.onsemi.cn/pub_link/Collateral/524AA.PDF
footprint ONSC-SOT-1123-3-524AA_V (SOT223, 3-Leads, Body 0.8x0.6mm, Pitch 0.38mm)
pins: 1 B, 2 E, 3 C

## NST847BPDP6T5G
designator Q?
Dual Complementary General Purpose Transistors, 6-Pin SOT-963, Pb-Free, Tape and Reel; Manufacturer: On Semiconductor; PartNumber: NST847BPDP6T5G; fT Min (MHz): 100; IC Continuous (A): 0.1; DatasheetVersion: Rev. 0; PackageVersion: Rev. B, 04/2008; PackageReference: SOT-963-6-527AD-01_B; PackageDescription: 6-Pin SOT23, Body 1 x 0.8 mm, Pitch 0.35 mm; Supplier 1: Digi-Key; Supplier Part Number 1: NST847BPDP6T5G-ND; Supplier 2: Newark; Supplier Part Number 2: 01P5117; Supplier 3: Mouser; Supplier Part Number 3: 863-NST847BPDP6T5G; Packing: Tape and Reel; Polarity: Complementary; RoHS: TRUE; Mounting Technology: Surface Mount; ComponentLink1Description: Manufacturer URL; ComponentLink1URL: http://www.onsemi.com/; ComponentLink2Description: Datasheet; ComponentLink2URL: http://www.onsemi.com/pub_link/Collateral/NST847BPDP6-D.PDF; ComponentLink3Description: Package Specification; ComponentLink3URL: http://www.onsemi.com/pub_link/Collateral/NST847BDP6-D.PDF
footprint ONSC-SOT-963-6-527AD-01_B_V (SOT23, 6-Leads, Body 1.05x0.85mm, Pitch 0.35mm)
part A pins: 3 C, 4 E, 5 B
part B pins: 1 E, 2 B, 6 C

## NST848BF3T5G
designator Q?
NPN General Purpose Transistor, 3-Pin SOT-1123, Pb-Free, Tape and Reel; Manufacturer: On Semiconductor; PartNumber: NST848BF3T5G; fT Min (MHz): 100; IC Continuous (A): 0.1; DatasheetVersion: Rev. 1; PackageVersion: Rev. C, 11/2011; PackageReference: SOT-1123-3-524AA; PackageDescription: 3-Pin Small Outline Transistor, Body 0.8 x 0.6 mm, Pitch 0.375 mm; Supplier 1: Digi-Key; Supplier Part Number 1: NST848BF3T5G-ND; Supplier 2: Newark; Supplier Part Number 2: 05R9161; Supplier 3: Mouser; Supplier Part Number 3: 863-NST848BF3T5G; Packing: Tape and Reel; Polarity: NPN; RoHS: TRUE; Mounting Technology: Surface Mount; ComponentLink1Description: Manufacturer URL; ComponentLink1URL: http://www.onsemi.com/; ComponentLink2Description: Datasheet; ComponentLink2URL: http://www.onsemi.com/pub_link/Collateral/NST848BF3-D.PDF; ComponentLink3Description: Package Specification; ComponentLink3URL: http://www.onsemi.cn/pub_link/Collateral/524AA.PDF
footprint ONSC-SOT-1123-3-524AA_V (SOT223, 3-Leads, Body 0.8x0.6mm, Pitch 0.38mm)
pins: 1 B, 2 E, 3 C

## NST856BF3T5G
designator Q?
PNP General Purpose Transistor, 3-Pin SOT-1123, Pb-Free, Tape and Reel; Manufacturer: On Semiconductor; PartNumber: NST856BF3T5G; fT Min (MHz): 100; IC Continuous (A): -0.1; DatasheetVersion: Rev. 1; PackageVersion: Rev. C, 11/2011; PackageReference: SOT-1123-3-524AA; PackageDescription: 3-Pin Small Outline Transistor, Body 0.8 x 0.6 mm, Pitch 0.375 mm; Supplier 1: Digi-Key; Supplier Part Number 1: NST856BF3T5G-ND; Supplier 2: Mouser; Supplier Part Number 2: 863-NST856BF3T5G; Packing: Tape and Reel; Polarity: PNP; RoHS: TRUE; Mounting Technology: Surface Mount; ComponentLink1Description: Manufacturer URL; ComponentLink1URL: http://www.onsemi.com/; ComponentLink2Description: Datasheet; ComponentLink2URL: http://www.onsemi.com/pub_link/Collateral/NST856BF3-D.PDF; ComponentLink3Description: Package Specification; ComponentLink3URL: http://www.onsemi.cn/pub_link/Collateral/524AA.PDF
footprint ONSC-SOT-1123-3-524AA_V (SOT223, 3-Leads, Body 0.8x0.6mm, Pitch 0.38mm)
pins: 1 B, 2 E, 3 C

## NST857BDP6T5G
designator Q?
Dual General Purpose Transistors, 6-Pin SOT-963, Pb-Free, Tape and Reel; Manufacturer: On Semiconductor; PartNumber: NST857BDP6T5G; fT Min (MHz): 100; IC Continuous (A): -0.1; Polarity: Dual PNP; DatasheetVersion: Rev. 0; PackageVersion: Rev. B, 04/2008; PackageReference: SOT-963-6-527AD-01_B; PackageDescription: 6-Pin SOT23, Body 1 x 0.8 mm, Pitch 0.35 mm; Supplier 1: Digi-Key; Supplier Part Number 1: NST857BDP6T5G-ND; Supplier 2: Newark; Supplier Part Number 2: 01P5118; Supplier 3: Mouser; Supplier Part Number 3: 863-NST857BDP6T5G; Packing: Tape and Reel; RoHS: TRUE; Mounting Technology: Surface Mount; ComponentLink1Description: Manufacturer URL; ComponentLink1URL: http://www.onsemi.com/; ComponentLink2Description: Datasheet; ComponentLink2URL: http://www.onsemi.com/pub_link/Collateral/NST857BDP6-D.PDF; ComponentLink3Description: Package Specification; ComponentLink3URL: http://www.onsemi.com/pub_link/Collateral/NST847BDP6-D.PDF
footprint ONSC-SOT-963-6-527AD-01_B_V (SOT23, 6-Leads, Body 1.05x0.85mm, Pitch 0.35mm)
part A pins: 3 C, 4 E, 5 B
part B pins: 1 E, 2 B, 6 C

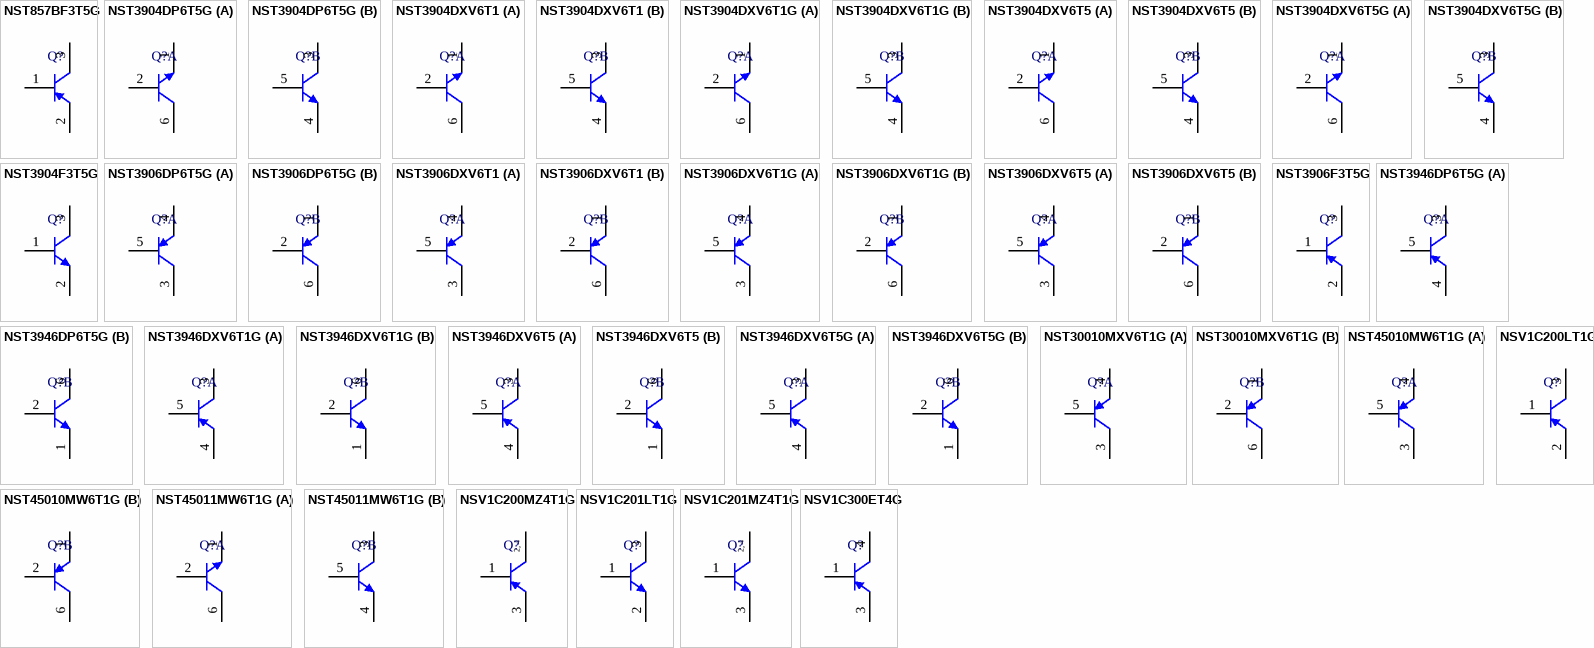
[diagram p62: symbols NST857BF3T5G to NSV1C300ET4G]

## NST857BF3T5G
designator Q?
PNP General Purpose Transistor, 3-Pin SOT-1123, Pb-Free, Tape and Reel; Manufacturer: On Semiconductor; PartNumber: NST857BF3T5G; fT Min (MHz): 100; IC Continuous (A): -0.1; DatasheetVersion: Rev. 1; PackageVersion: Rev. C, 11/2011; PackageReference: SOT-1123-3-524AA; PackageDescription: 3-Pin Small Outline Transistor, Body 0.8 x 0.6 mm, Pitch 0.375 mm; Supplier 1: Digi-Key; Supplier Part Number 1: NST857BF3T5G-ND; Supplier 2: Mouser; Supplier Part Number 2: 863-NST857BF3T5G; Packing: Tape and Reel; Polarity: PNP; RoHS: TRUE; Mounting Technology: Surface Mount; ComponentLink1Description: Manufacturer URL; ComponentLink1URL: http://www.onsemi.com/; ComponentLink2Description: Datasheet; ComponentLink2URL: http://www.onsemi.com/pub_link/Collateral/NST857BF3-D.PDF; ComponentLink3Description: Package Specification; ComponentLink3URL: http://www.onsemi.cn/pub_link/Collateral/524AA.PDF
footprint ONSC-SOT-1123-3-524AA_V (SOT223, 3-Leads, Body 0.8x0.6mm, Pitch 0.38mm)
pins: 1 B, 2 E, 3 C

## NST3904DP6T5G
designator Q?
Dual General Purpose Transistors, 6-Pin SOT-963, Pb-Free, Tape and Reel; Manufacturer: On Semiconductor; PartNumber: NST3904DP6T5G; fT Min (MHz): 200; IC Continuous (A): 0.2; Polarity: Dual NPN; DatasheetVersion: Rev. 0; PackageVersion: Rev. B, 04/2008; PackageReference: SOT-963-6-527AD-01_B; PackageDescription: 6-Pin SOT23, Body 1 x 0.8 mm, Pitch 0.35 mm; Supplier 1: Digi-Key; Supplier Part Number 1: NST3904DP6T5GOSTR-ND; Supplier 2: Digi-Key; Supplier Part Number 2: NST3904DP6T5GOSCT-ND; Supplier 3: Digi-Key; Supplier Part Number 3: NST3904DP6T5GOSDKR-ND; Supplier 4: Farnell; Supplier Part Number 4: 2317635; Supplier 5: Newark; Supplier Part Number 5: 73P9692; Supplier 6: Newark; Supplier Part Number 6: 01P5109; Supplier 7: Mouser; Supplier Part Number 7: 863-NST3904DP6T5G; Packing: Tape and Reel; RoHS: TRUE; Mounting Technology: Surface Mount; ComponentLink1Description: Manufacturer URL; ComponentLink1URL: http://www.onsemi.com/; ComponentLink2Description: Datasheet; ComponentLink2URL: http://www.onsemi.com/pub_link/Collateral/NST3904DP6-D.PDF; ComponentLink3Description: Package Specification; ComponentLink3URL: http://www.onsemi.com/pub_link/Collateral/NST847BDP6-D.PDF
footprint ONSC-SOT-963-6-527AD-01_B_V (SOT23, 6-Leads, Body 1.05x0.85mm, Pitch 0.35mm)
part A pins: 1 E, 2 B, 6 C
part B pins: 3 C, 4 E, 5 B

## NST3904DXV6T1
designator Q?
Dual General Purpose Transistors, 6-Pin SOT-563, Pb-Free, Tape and Reel; Manufacturer: On Semiconductor; PartNumber: NST3904DXV6T1; fT Min (MHz): 300; IC Continuous (A): 0.2; Polarity: Dual NPN; DatasheetVersion: Rev. 5; PackageVersion: Rev. F, 04/2005; PackageReference: SOT-563-6-463A-01; PackageDescription: 6-Pin Small Outline Transistor, Body 1.6 x 1.2 mm, Pitch 0.5 mm; Supplier 1: Mouser; Supplier Part Number 1: 863-NST3904DXV6T1; Packing: Tape and Reel; RoHS: TRUE; Mounting Technology: Surface Mount; ComponentLink1Description: Manufacturer URL; ComponentLink1URL: http://www.onsemi.com/; ComponentLink2Description: Datasheet; ComponentLink2URL: http://www.onsemi.com/pub_link/Collateral/NST3904DXV6T1-D.PDF; ComponentLink3Description: Package Specification; ComponentLink3URL: http://www.onsemi.cn/pub_link/Collateral/463A-01.PDF
footprint ONSC-SOT-563-6-463A-01_V (SOT23, 6-Leads, Body 1.6x1.2mm, Pitch 0.5mm)
part A pins: 1 E, 2 B, 6 C
part B pins: 3 C, 4 E, 5 B

## NST3904DXV6T1G
designator Q?
Dual General Purpose Transistors, 6-Pin SOT-563, Pb-Free, Tape and Reel; Manufacturer: On Semiconductor; PartNumber: NST3904DXV6T1G; fT Min (MHz): 300; IC Continuous (A): 0.2; Polarity: Dual NPN; DatasheetVersion: Rev. 5; PackageVersion: Rev. F, 04/2005; PackageReference: SOT-563-6-463A-01; PackageDescription: 6-Pin Small Outline Transistor, Body 1.6 x 1.2 mm, Pitch 0.5 mm; Supplier 1: Digi-Key; Supplier Part Number 1: NST3904DXV6T1GOSTR-ND; Supplier 2: Digi-Key; Supplier Part Number 2: NST3904DXV6T1GOSCT-ND; Supplier 3: Digi-Key; Supplier Part Number 3: NST3904DXV6T1GOSDKR-ND; Supplier 4: Newark; Supplier Part Number 4: 10N9564; Supplier 5: Newark; Supplier Part Number 5: 42K2376; Supplier 6: Mouser; Supplier Part Number 6: 863-NST3904DXV6T1G; Packing: Tape and Reel; RoHS: TRUE; Mounting Technology: Surface Mount; ComponentLink1Description: Manufacturer URL; ComponentLink1URL: http://www.onsemi.com/; ComponentLink2Description: Datasheet; ComponentLink2URL: http://www.onsemi.com/pub_link/Collateral/NST3904DXV6T1-D.PDF; ComponentLink3Description: Package Specification; ComponentLink3URL: http://www.onsemi.cn/pub_link/Collateral/463A-01.PDF
footprint ONSC-SOT-563-6-463A-01_V (SOT23, 6-Leads, Body 1.6x1.2mm, Pitch 0.5mm)
part A pins: 1 E, 2 B, 6 C
part B pins: 3 C, 4 E, 5 B

## NST3904DXV6T5
designator Q?
Dual General Purpose Transistors, 6-Pin SOT-563, Pb-Free, Tape and Reel; Manufacturer: On Semiconductor; PartNumber: NST3904DXV6T5; fT Min (MHz): 300; IC Continuous (A): 0.2; Polarity: Dual NPN; DatasheetVersion: Rev. 5; PackageVersion: Rev. F, 04/2005; PackageReference: SOT-563-6-463A-01; PackageDescription: 6-Pin Small Outline Transistor, Body 1.6 x 1.2 mm, Pitch 0.5 mm; Supplier 1: Digi-Key; Supplier Part Number 1: NST3904DXV6T5OS-ND; Supplier 2: Mouser; Supplier Part Number 2: 863-NST3904DXV6T5; Packing: Tape and Reel; RoHS: TRUE; Mounting Technology: Surface Mount; ComponentLink1Description: Manufacturer URL; ComponentLink1URL: http://www.onsemi.com/; ComponentLink2Description: Datasheet; ComponentLink2URL: http://www.onsemi.com/pub_link/Collateral/NST3904DXV6T1-D.PDF; ComponentLink3Description: Package Specification; ComponentLink3URL: http://www.onsemi.cn/pub_link/Collateral/463A-01.PDF
footprint ONSC-SOT-563-6-463A-01_V (SOT23, 6-Leads, Body 1.6x1.2mm, Pitch 0.5mm)
part A pins: 1 E, 2 B, 6 C
part B pins: 3 C, 4 E, 5 B

## NST3904DXV6T5G
designator Q?
Dual General Purpose Transistors, 6-Pin SOT-563, Pb-Free, Tape and Reel; Manufacturer: On Semiconductor; PartNumber: NST3904DXV6T5G; fT Min (MHz): 300; IC Continuous (A): 0.2; Polarity: Dual NPN; DatasheetVersion: Rev. 5; PackageVersion: Rev. F, 04/2005; PackageReference: SOT-563-6-463A-01; PackageDescription: 6-Pin Small Outline Transistor, Body 1.6 x 1.2 mm, Pitch 0.5 mm; Supplier 1: Digi-Key; Supplier Part Number 1: NST3904DXV6T5GOSTR-ND; Supplier 2: Digi-Key; Supplier Part Number 2: NST3904DXV6T5GOSCT-ND; Supplier 3: Mouser; Supplier Part Number 3: 863-NST3904DXV6T5G; Packing: Tape and Reel; RoHS: TRUE; Mounting Technology: Surface Mount; ComponentLink1Description: Manufacturer URL; ComponentLink1URL: http://www.onsemi.com/; ComponentLink2Description: Datasheet; ComponentLink2URL: http://www.onsemi.com/pub_link/Collateral/NST3904DXV6T1-D.PDF; ComponentLink3Description: Package Specification; ComponentLink3URL: http://www.onsemi.cn/pub_link/Collateral/463A-01.PDF
footprint ONSC-SOT-563-6-463A-01_V (SOT23, 6-Leads, Body 1.6x1.2mm, Pitch 0.5mm)
part A pins: 1 E, 2 B, 6 C
part B pins: 3 C, 4 E, 5 B

## NST3904F3T5G
designator Q?
NPN General Purpose Transistor, 3-Pin SOT-1123, Pb-Free, Tape and Reel; Manufacturer: On Semiconductor; PartNumber: NST3904F3T5G; fT Min (MHz): 200; IC Continuous (A): 0.2; DatasheetVersion: Rev. 1; PackageVersion: Rev. C, 11/2011; PackageReference: SOT-1123-3-524AA; PackageDescription: 3-Pin Small Outline Transistor, Body 0.8 x 0.6 mm, Pitch 0.375 mm; Supplier 1: Digi-Key; Supplier Part Number 1: NST3904F3T5GOSTR-ND; Supplier 2: Digi-Key; Supplier Part Number 2: NST3904F3T5GOSCT-ND; Supplier 3: Digi-Key; Supplier Part Number 3: NST3904F3T5GOSDKR-ND; Supplier 4: Farnell; Supplier Part Number 4: 2317544; Supplier 5: Newark; Supplier Part Number 5: 73P9693; Supplier 6: Newark; Supplier Part Number 6: 01P5110; Supplier 7: Mouser; Supplier Part Number 7: 863-NST3904F3T5G; Packing: Tape and Reel; Polarity: NPN; RoHS: TRUE; Mounting Technology: Surface Mount; ComponentLink1Description: Manufacturer URL; ComponentLink1URL: http://www.onsemi.com/; ComponentLink2Description: Datasheet; ComponentLink2URL: http://www.onsemi.com/pub_link/Collateral/NST3904F3-D.PDF; ComponentLink3Description: Package Specification; ComponentLink3URL: http://www.onsemi.cn/pub_link/Collateral/524AA.PDF
footprint ONSC-SOT-1123-3-524AA_V (SOT223, 3-Leads, Body 0.8x0.6mm, Pitch 0.38mm)
pins: 1 B, 2 E, 3 C